# Altium footprint library 3587.PcbLib: 1 footprints
Each footprint in its own frame and in the unit in brackets; x right, y up, seen from the top. Pads: shape width x height; smd on the part's side, far side on the other; paste and mask are expansions set on the pad; w line width, h text height; cw(c..) or ccw(c..) is an arc to the next point about the centre after c.
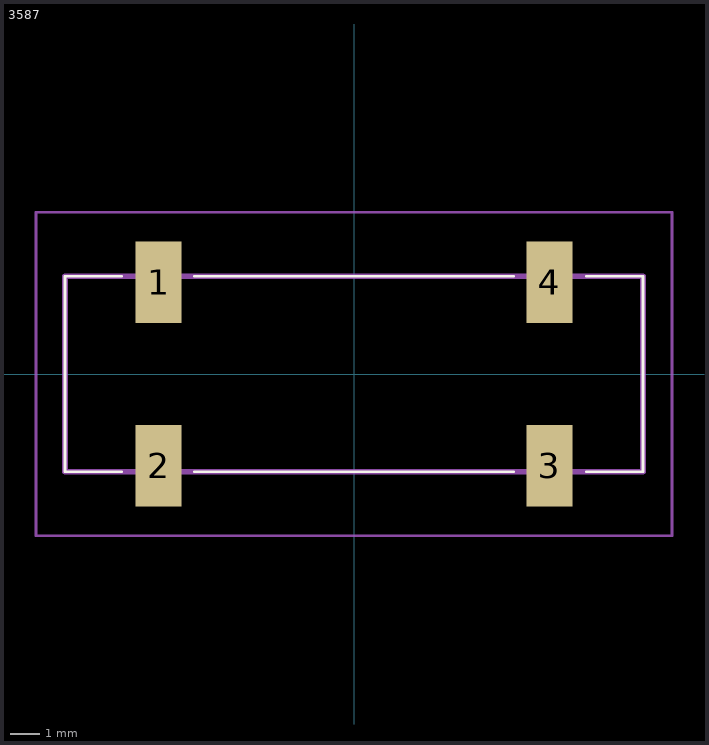
[diagram p0: the footprint, top view; thin cyan lines are the x and y axes]

## 3587 [mm]
pads (4):
  rect 1.57x2.82 smd: 1(-6.73,3.16) 2(-6.73,-3.16) 3(6.73,-3.16) 4(6.73,3.16)
Top Overlay:
  lines w0.1: -8,-3.365 -9.955,-3.365 -9.955,3.365 -8,3.365 ; -5.5,-3.365 5.5,-3.365 ; -5.5,3.365 5.5,3.365 ; 8,-3.365 9.955,-3.365 9.955,3.365 8,3.365
Mechanical 15:
  lines w0.2: -9.955,-3.365 9.955,-3.365 9.955,3.365 -9.955,3.365 -9.955,-3.365
Mechanical 20:
  lines w0.1: -10.955,-5.57 10.955,-5.57 10.955,5.57 -10.955,5.57 -10.955,-5.57